# Altium schematic symbol library NICELO_ED01r2.SCHLIB: 46 symbols
Pins are listed as number, name and electrical type; pins without a type are passive.

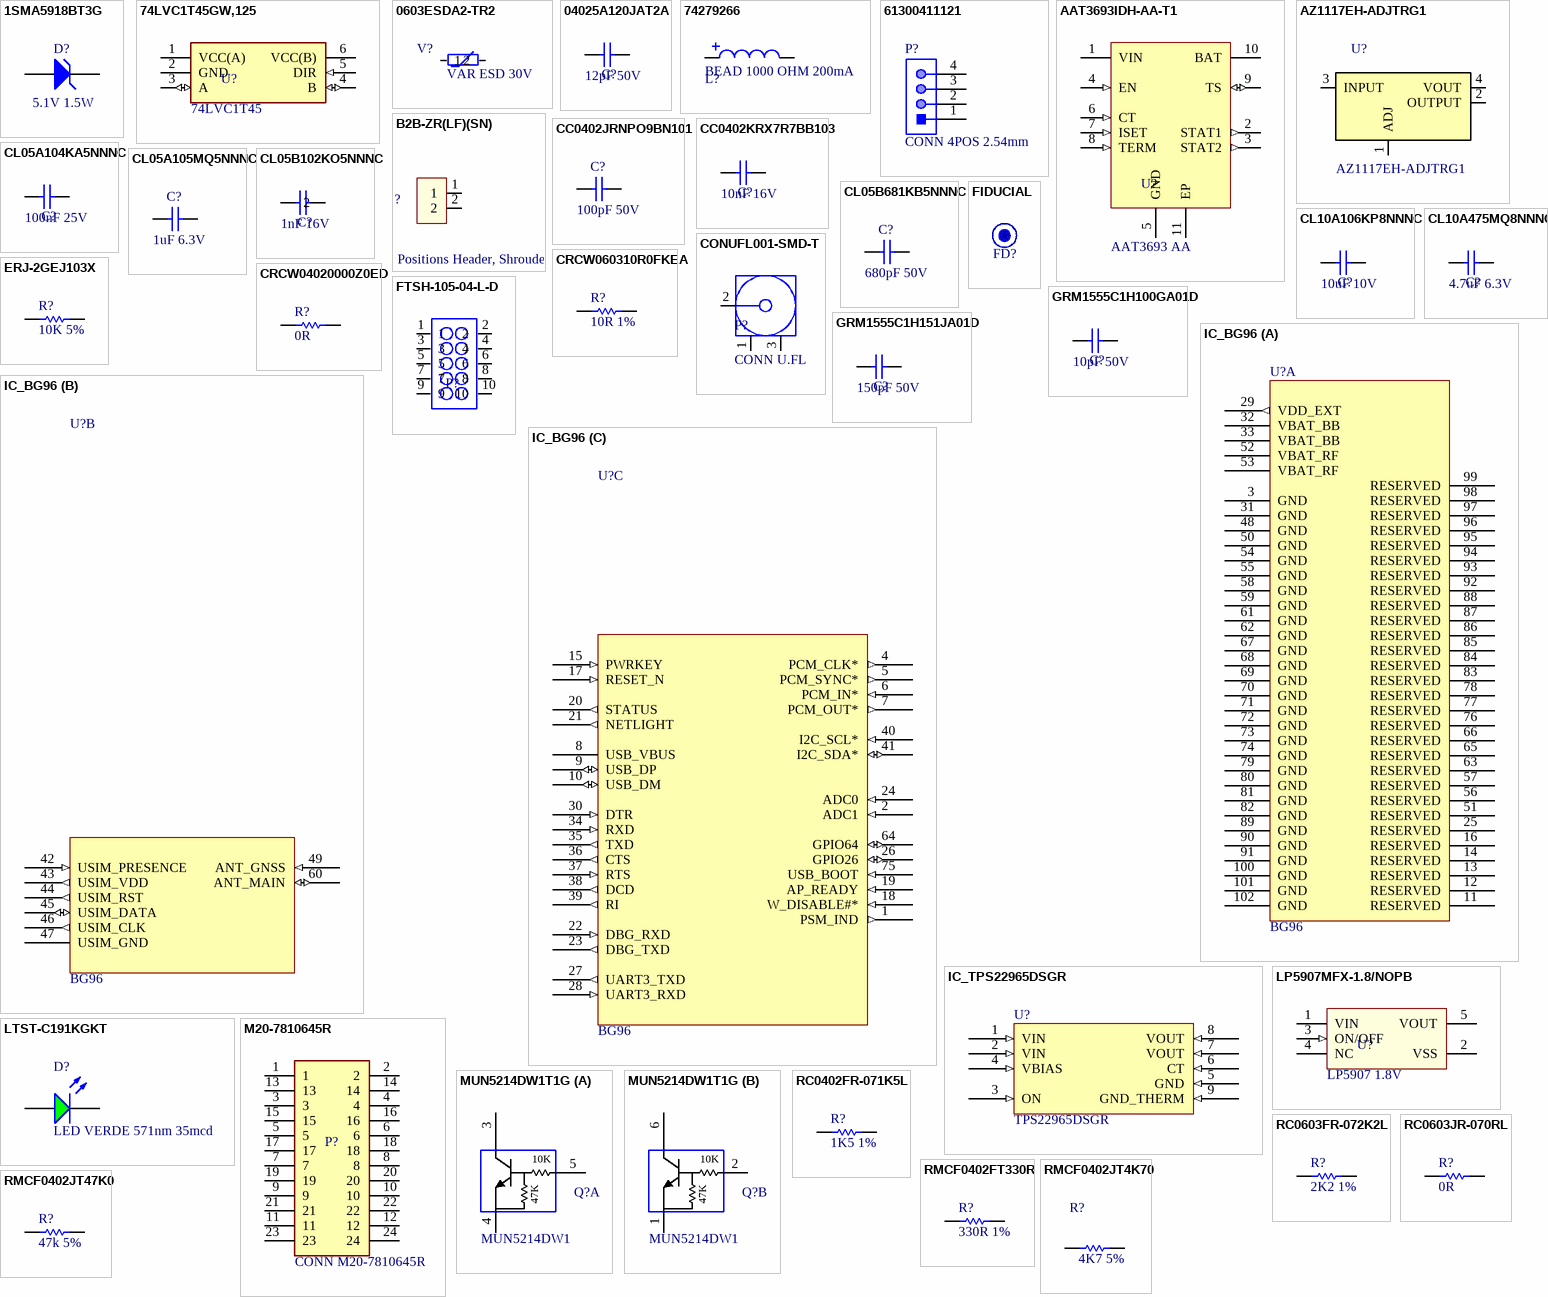
[diagram p0: symbols 1SMA5918BT3G to RMCF0402JT47K0]

## 1SMA5918BT3G
designator D?, comment Valor: 5.1V 1.5W  (hidden comment: DIODO SMD ZENER 5.1V 1.5W DO214AC/SMA)
DIO  SMD ZENER 5.1V 1.5W DO214AC/SMA; Manufacturer: ON Semiconductor; Manufacturer Part Number: 1SMA5918BT3G; Origem: NICELO-Ed01R2; Case/Package: SMA; ComponentLink1URL: https://datasheet.ciiva.com/34303/2015177-34303854.pdf?src-supplier=Jameco; ComponentLink1Description: https://datasheet.ciiva.com/34303/2015177-34303854.pdf?src-supplier=Jameco; ComponentLink2URL: https://datasheet.ciiva.com/895/1sma5913bt3-d-895281.pdf?src-supplier=Digi-Key; ComponentLink2Description: https://datasheet.ciiva.com/895/1sma5913bt3-d-895281.pdf?src-supplier=Digi-Key; ComponentLink3URL: https://datasheet.ciiva.com/895/1sma5913bt3-d-895282.pdf?src-supplier=Digi-Key; ComponentLink3Description: https://datasheet.ciiva.com/895/1sma5913bt3-d-895282.pdf?src-supplier=Digi-Key; ComponentLink4URL: https://datasheet.ciiva.com/895/1sma5913bt3-d-895283.pdf?src-supplier=Digi-Key; ComponentLink4Description: https://datasheet.ciiva.com/895/1sma5913bt3-d-895283.pdf?src-supplier=Digi-Key; ComponentLink5URL: https://datasheet.ciiva.com/4732/1sma5913bt3-d-4732729.pdf?src-supplier=Mouser; ComponentLink5Description: https://datasheet.ciiva.com/4732/1sma5913bt3-d-4732729.pdf?src-supplier=Mouser; ComponentLink6URL: https://datasheet.ciiva.com/8026/1sma5913bt3-d-8026921.pdf?src-supplier=Element14; ComponentLink6Description: https://datasheet.ciiva.com/8026/1sma5913bt3-d-8026921.pdf?src-supplier=Element14; ComponentLink7URL: https://datasheet.ciiva.com/15198/getdatasheetpartid-302228-15198650.pdf?src-supplier=Verical; ComponentLink7Description: https://datasheet.ciiva.com/15198/getdatasheetpartid-302228-15198650.pdf?src-supplier=Verical; ComponentLink8URL: https://datasheet.ciiva.com/49029/70339282-49029083.pdf?src-supplier=Allied+Electronics; ComponentLink8Description: https://datasheet.ciiva.com/49029/70339282-49029083.pdf?src-supplier=Allied+Electronics; ComponentLink9URL: https://datasheet.ciiva.com/26092/1sma5913bt3-d-26092412.pdf?src-supplier=Avnet+Europe; ComponentLink9Description: https://datasheet.ciiva.com/26092/1sma5913bt3-d-26092412.pdf?src-supplier=Avnet+Europe
footprint DIO DO214 AC (SMA)
pins: 1 A, 2 K

## 74LVC1T45GW,125
designator U?, comment Valor: 74LVC1T45  (hidden comment: IC TRNSLTR BIDIRECTIONAL 6TSSOP)
IC TRANSLATER BIDIRECTIONAL 1:1 6TSSOP; Manufacturer: Nexperia USA; Manufacturer Part Number: 74LVC1T45GW,125; Origem: NICELO-Ed01R2; Case/Package: SOT-363
footprint IC SOT-363
pins: 1 VCC(A) (power), 2 GND (power), 3 A (io), 4 B (io), 5 DIR (in), 6 VCC(B) (power)

## 0603ESDA2-TR2
designator V?, comment VALOR: VAR ESD 30V  (hidden comment: SUPPRESSOR ESD 30VDC 0603 SMD)
VAR SMD SUPPRESSOR ESD 30VDC 0603; Manufacturer: Eaton Bussmann; Manufacturer Part Number: 0603ESDA2-TR2; Origem: NICELO-Ed01R2; ComponentLink1URL: https://datasheet.ciiva.com/16351/bus-elx-ds-4419-0603esda2-tr2-16351105.pdf?src-supplier=Future+Electronics; ComponentLink1Description: https://datasheet.ciiva.com/16351/bus-elx-ds-4419-0603esda2-tr2-16351105.pdf?src-supplier=Future+Electronics; ComponentLink2URL: https://datasheet.ciiva.com/12070/bus-elx-ds-4419-0603esda2-tr2-217799-12070781.pdf?src-supplier=Mouser; ComponentLink2Description: https://datasheet.ciiva.com/12070/bus-elx-ds-4419-0603esda2-tr2-217799-12070781.pdf?src-supplier=Mouser; ComponentLink3URL: https://datasheet.ciiva.com/15186/getdatasheetpartid-715931-15186767.pdf?src-supplier=Verical; ComponentLink3Description: https://datasheet.ciiva.com/15186/getdatasheetpartid-715931-15186767.pdf?src-supplier=Verical; Case/Package: 0603; ComponentLink4URL: http://www.cooperindustries.com/content/dam/public/bussmann/Electronics/Resources/product-datasheets/bus-elx-ds-4419-0603esda2-tr2.pdf?src-supplier=Future+Electronics; ComponentLink4Description: http://www.cooperindustries.com/content/dam/public/bussmann/Electronics/Resources/product-datasheets/bus-elx-ds-4419-0603esda2-tr2.pdf?src-supplier=Future+Electronics; ComponentLink5URL: http://www.mouser.com/ds/2/87/bus-elx-ds-4419-0603esda2-tr2-318652.pdf?src-supplier=Mouser; ComponentLink5Description: http://www.mouser.com/ds/2/87/bus-elx-ds-4419-0603esda2-tr2-318652.pdf?src-supplier=Mouser; ComponentLink6URL: https://www.verical.com/server-webapp/html/getDatasheet?partID=715931&src-supplier=Verical; ComponentLink6Description: https://www.verical.com/server-webapp/html/getDatasheet?partID=715931&src-supplier=Verical
footprint VAR 0603
pins: 1, 2

## 04025A120JAT2A
designator C?, comment Valor: 12pF 50V  (hidden comment: CAP SMD CER 12pF 50V C0G/NP0 0402)
Manufacturer: Kyocera AVX; Manufacturer Part Number: 04025A120JAT2A; Origem: NICELO-Ed01R2; Case/Package: 0402; ComponentLink1URL: https://datasheet.ciiva.com/11786/0900766b80def0e2-11786812.pdf?src-supplier=RSComponents; ComponentLink1Description: https://datasheet.ciiva.com/11786/0900766b80def0e2-11786812.pdf?src-supplier=RSComponents; ComponentLink2URL: https://datasheet.ciiva.com/1123/84496-1123477.pdf?src-supplier=Element14; ComponentLink2Description: https://datasheet.ciiva.com/1123/84496-1123477.pdf?src-supplier=Element14; ComponentLink3URL: https://datasheet.ciiva.com/1123/84496-1123478.pdf?src-supplier=Element14; ComponentLink3Description: https://datasheet.ciiva.com/1123/84496-1123478.pdf?src-supplier=Element14; ComponentLink4URL: https://datasheet.ciiva.com/16208/ccog-16208358.pdf?src-supplier=Future+Electronics; ComponentLink4Description: https://datasheet.ciiva.com/16208/ccog-16208358.pdf?src-supplier=Future+Electronics; ComponentLink5URL: https://datasheet.ciiva.com/150/ccog-150539.pdf?src-supplier=Digi-Key; ComponentLink5Description: https://datasheet.ciiva.com/150/ccog-150539.pdf?src-supplier=Digi-Key; ComponentLink6URL: https://datasheet.ciiva.com/150/ccog-150540.pdf?src-supplier=Digi-Key; ComponentLink6Description: https://datasheet.ciiva.com/150/ccog-150540.pdf?src-supplier=Digi-Key; ComponentLink7URL: https://datasheet.ciiva.com/150/ccog-150541.pdf?src-supplier=Digi-Key; ComponentLink7Description: https://datasheet.ciiva.com/150/ccog-150541.pdf?src-supplier=Digi-Key; ComponentLink8URL: https://datasheet.ciiva.com/2987/ccog-2987645.pdf?src-supplier=Avnet; ComponentLink8Description: https://datasheet.ciiva.com/2987/ccog-2987645.pdf?src-supplier=Avnet; ComponentLink9URL: https://datasheet.ciiva.com/7709/759117-7709533.pdf?src-supplier=Element14; ComponentLink9Description: https://datasheet.ciiva.com/7709/759117-7709533.pdf?src-supplier=Element14
footprint CAP 0402
pins: 1, 2

## 74279266
designator L?, comment Valor: BEAD 1000 OHM 200mA  (hidden comment: FERRITE BEAD 1000OHM 0.2A 0603)
Manufacturer: Wurth Electronics; Manufacturer Part Number: 74279266; Origem: NICELO-Ed01R2; Case/Package: 0603; ComponentLink1URL: https://datasheet.ciiva.com/14634/0900766b801ef1d0-14634816.pdf?src-supplier=Allied+Electronics; ComponentLink1Description: https://datasheet.ciiva.com/14634/0900766b801ef1d0-14634816.pdf?src-supplier=Allied+Electronics; ComponentLink2URL: https://datasheet.ciiva.com/23763/74279266-23763009.pdf?src-supplier=Newark; ComponentLink2Description: https://datasheet.ciiva.com/23763/74279266-23763009.pdf?src-supplier=Newark; ComponentLink3URL: https://datasheet.ciiva.com/11799/0900766b801ef1d0-11799352.pdf?src-supplier=RSComponents; ComponentLink3Description: https://datasheet.ciiva.com/11799/0900766b801ef1d0-11799352.pdf?src-supplier=RSComponents; ComponentLink4URL: https://datasheet.ciiva.com/12395/74279266-221135-12395453.pdf?src-supplier=Mouser; ComponentLink4Description: https://datasheet.ciiva.com/12395/74279266-221135-12395453.pdf?src-supplier=Mouser; ComponentLink5URL: https://datasheet.ciiva.com/14971/74279266-14971192.pdf?src-supplier=Digi-Key; ComponentLink5Description: https://datasheet.ciiva.com/14971/74279266-14971192.pdf?src-supplier=Digi-Key; ComponentLink6URL: https://datasheet.ciiva.com/1466/1705901-1466509.pdf?src-supplier=Element14; ComponentLink6Description: https://datasheet.ciiva.com/1466/1705901-1466509.pdf?src-supplier=Element14; ComponentLink7URL: https://datasheet.ciiva.com/22711/1705901-22711422.pdf?src-supplier=Element14; ComponentLink7Description: https://datasheet.ciiva.com/22711/1705901-22711422.pdf?src-supplier=Element14; ComponentLink8URL: https://datasheet.ciiva.com/48698/001087059-da-01-ml-we-cbf-smd-ferrit-74279266-de-en-48698427.pdf?src-supplier=Conrad; ComponentLink8Description: https://datasheet.ciiva.com/48698/001087059-da-01-ml-we-cbf-smd-ferrit-74279266-de-en-48698427.pdf?src-supplier=Conrad
footprint IND 0603
pins: 1, 2

## 61300411121
designator P?, comment Valor: CONN 4POS 2.54mm  (hidden comment: CONN_HEADER_VERT_4POS_2.54MM)
CONN HEADER VERT 4POS 2.54MM PTH; Manufacturer: Wurth Electronics; Manufacturer Part Number: 61300411121; Origem: NICELO-Ed01R2; ComponentLink1URL: http://www.farnell.com/cad/1737268.pdf?src-supplier=Element14; ComponentLink1Description: http://www.farnell.com/cad/1737268.pdf?src-supplier=Element14; ComponentLink2URL: https://katalog.we-online.de/em/datasheet/6130xx11121.pdf?src-supplier=Digi-Key; ComponentLink2Description: https://katalog.we-online.de/em/datasheet/6130xx11121.pdf?src-supplier=Digi-Key; Case/Package: PTH
footprint CONN 4x1 0.100"
pins: 1, 2, 3, 4

## AAT3693IDH-AA-T1
designator U?, comment Valor: AAT3693 AA  (hidden comment: IC LINEAR LI-ION CHGR 1.6A 10TDFN)
Manufacturer: Skyworks Solutions; Manufacturer Part Number: AAT3693IDH-AA-T1; Origem: NICELO-Ed01R2; Case/Package: 10TDFN
footprint IC TDFN-10
pins: 1 VIN (power), 2 STAT1 (out), 3 STAT2 (out), 4 EN (in), 5 GND (power), 6 CT (in), 7 ISET (in), 8 TERM (in), 9 TS (io), 10 BAT (power), 11 EP (power)

## AZ1117EH-ADJTRG1
designator U?, comment Valor: AZ1117EH-ADJTRG1  (hidden comment: IC REG LINEAR POS ADJ 1A SOT223)
Manufacturer: Diodes; Origem: NICELO-Ed01R2; Manufacturer Part Number: AZ1117EH-ADJTRG1; Case/Package: SOT-223; ComponentLink1URL: http://www.mouser.com/ds/2/115/Diodes_AZ1117E-516247.pdf?src-supplier=Mouser; ComponentLink1Description: http://www.mouser.com/ds/2/115/Diodes_AZ1117E-516247.pdf?src-supplier=Mouser; ComponentLink2URL: http://www.alliedelec.com/m/d/d57de965c87ebdde83413643fe4a03e7.pdf?src-supplier=Allied+Electronics; ComponentLink2Description: http://www.alliedelec.com/m/d/d57de965c87ebdde83413643fe4a03e7.pdf?src-supplier=Allied+Electronics; ComponentLink3URL: https://www.diodes.com/assets/Datasheets/AZ1117E.pdf?src-supplier=Digi-Key; ComponentLink3Description: https://www.diodes.com/assets/Datasheets/AZ1117E.pdf?src-supplier=Digi-Key
footprint IC SOT-223
pins: 1 ADJ, 2 OUTPUT, 3 INPUT, 4 VOUT

## B2B-ZR(LF)(SN)
designator P?, comment 2 Positions Header, Shrouded Connector 0.059" (1.50mm) Through Hole Tin-Lead
CONN BATTERY 2 Positions 0.059" (1.50mm) PTH; Manufacturer: JST; Manufacturer Part Number: B2B-ZR(LF)(SN); Origem: NICELO-Ed01R2; VALOR: CONN B2B-ZR; ComponentLink1URL: https://media.digikey.com/pdf/Data%20Sheets/JST%20PDFs/ZH%20Connector.pdf; ComponentLink1Description: https://media.digikey.com/pdf/Data%20Sheets/JST%20PDFs/ZH%20Connector.pdf; ComponentLink2URL: https://www.distrelec.biz/Web/Downloads/_t/ds/zh-series_eng_tds.pdf?mime=application%2Fpdf; ComponentLink2Description: https://www.distrelec.biz/Web/Downloads/_t/ds/zh-series_eng_tds.pdf?mime=application%2Fpdf; Case/Package: HEADER VERT 2 POS
footprint CONN B2B-ZR
pins: 1, 2

## CC0402JRNPO9BN101
designator C?, comment Valor: 100pF 50V  (hidden comment: CAP SMD CER 100pF 50V C0G/NPO 0402)
Manufacturer: Yageo; Manufacturer Part Number: CC0402JRNPO9BN101; Origem: NICELO-Ed01R2; Case/Package: 0402; ComponentLink1URL: http://www.farnell.com/datasheets/2213336.pdf?src-supplier=Newark; ComponentLink1Description: http://www.farnell.com/datasheets/2213336.pdf?src-supplier=Newark; ComponentLink2URL: http://www.yageo.com/documents/recent/UPY-GP_NP0_16V-to-50V_16.pdf?src-supplier=Digi-Key; ComponentLink2Description: http://www.yageo.com/documents/recent/UPY-GP_NP0_16V-to-50V_16.pdf?src-supplier=Digi-Key; ComponentLink3URL: http://documents.rs-components.com/techlib://itc_doclist_GB.htm?stockno=6698684&src-supplier=RSComponents; ComponentLink3Description: http://documents.rs-components.com/techlib://itc_doclist_GB.htm?stockno=6698684&src-supplier=RSComponents; ComponentLink4URL: http://www.yageo.com/documents/recent/UPY-GP_NP0_16V-to-50V_8.pdf?src-supplier=Avnet+Europe; ComponentLink4Description: http://www.yageo.com/documents/recent/UPY-GP_NP0_16V-to-50V_8.pdf?src-supplier=Avnet+Europe; ComponentLink5URL: http://www.farnell.com/datasheets/1443161.pdf?src-supplier=Element14; ComponentLink5Description: http://www.farnell.com/datasheets/1443161.pdf?src-supplier=Element14
footprint CAP 0402 (CAPACITOR 0402)
pins: 1, 2

## CC0402KRX7R7BB103
designator C?, comment Valor: 10nF 16V  (hidden comment: CAP SMD CER 10nF 16V 0402)
CAP SMD CER 10nF 16V X7R 0402; Manufacturer: Yageo; Manufacturer Part Number: CC0402KRX7R7BB103; Origem: NICELO-Ed01R2; Case/Package: 0402; ComponentLink3URL: http://www.farnell.com/datasheets/70765.pdf?src-supplier=Element14; ComponentLink3Description: http://www.farnell.com/datasheets/70765.pdf?src-supplier=Element14; ComponentLink4URL: http://www.farnell.com/datasheets/1489800.pdf?src-supplier=Element14; ComponentLink4Description: http://www.farnell.com/datasheets/1489800.pdf?src-supplier=Element14; ComponentLink5URL: http://www.mouser.com/ds/2/447/Yageo_UPY-GP_NP0_16V-to-50V_9-358835.pdf?src-supplier=Mouser; ComponentLink5Description: http://www.mouser.com/ds/2/447/Yageo_UPY-GP_NP0_16V-to-50V_9-358835.pdf?src-supplier=Mouser
footprint CAP 0402
pins: 1, 2

## CL05A104KA5NNNC
designator C?, comment Valor: 100nF 25V  (hidden comment: CAP SMD CER 100nF 25V 0402)
CAP SMD CER 100nF 25V X5R 0402; Manufacturer: Samsung; Manufacturer Part Number: CL05A104KA5NNNC; Origem: NICELO-Ed01R2; Case/Package: 0402; ComponentLink2URL: https://www.distrelec.biz/Web/Downloads/_e/ng/MLCC_CatalogDownload2013_ENG.pdf?mime=application%2Fpdf&src-supplier=Distrelec; ComponentLink2Description: https://www.distrelec.biz/Web/Downloads/_e/ng/MLCC_CatalogDownload2013_ENG.pdf?mime=application%2Fpdf&src-supplier=Distrelec; ComponentLink3URL: http://www1.futureelectronics.com/doc/SAMSUNG/CL05A104KA5NNNC.pdf?src-supplier=Future+Electronics; ComponentLink3Description: http://www1.futureelectronics.com/doc/SAMSUNG/CL05A104KA5NNNC.pdf?src-supplier=Future+Electronics; ComponentLink4URL: https://www.verical.com/server-webapp/html/getDatasheet?partID=357412&src-supplier=Verical; ComponentLink4Description: https://www.verical.com/server-webapp/html/getDatasheet?partID=357412&src-supplier=Verical
footprint CAP 0402
pins: 1, 2

## CL05A105MQ5NNNC
designator C?, comment Valor: 1uF 6.3V  (hidden comment: CAP SMD CER 1uF 6.3V X5R 0402)
Manufacturer: Samsung; Manufacturer Part Number: CL05A105MQ5NNNC; Origem: NICELO-Ed01R2; Case/Package: 0402; ComponentLink2URL: https://www.verical.com/server-webapp/html/getDatasheet?partID=355273&src-supplier=Verical; ComponentLink2Description: https://www.verical.com/server-webapp/html/getDatasheet?partID=355273&src-supplier=Verical; ComponentLink3URL: http://www1.futureelectronics.com/doc/SAMSUNG%20PASSIVE/CL05B104KQ5NNNC.pdf?src-supplier=Future+Electronics; ComponentLink3Description: http://www1.futureelectronics.com/doc/SAMSUNG%20PASSIVE/CL05B104KQ5NNNC.pdf?src-supplier=Future+Electronics
footprint CAP 0402 (CAPACITOR 0402)
pins: 1, 2

## CL05B102KO5NNNC
designator C?, comment Valor: 1nF 16V  (hidden comment: CAP SMD CER 1nF 16V 0402)
CAP SMD CER 1nF 16V X7R 0402; Manufacturer: Samsung; Manufacturer Part Number: CL05B102KO5NNNC; Origem: NICELO-Ed01R2; Case/Package: 0402
footprint CAP 0402
pins: 1, 2

## CL05B681KB5NNNC
designator C?, comment Valor: 680pF 50V  (hidden comment: CAP SMD CER 680pF 50V X7R 0402)
Manufacturer: Samsung; Manufacturer Part Number: CL05B681KB5NNNC; Origem: NICELO-Ed01R2; Case/Package: 0402; ComponentLink1URL: http://www1.futureelectronics.com/doc/SAMSUNG/CL05B681KB5NNNC.pdf?src-supplier=Future+Electronics; ComponentLink1Description: http://www1.futureelectronics.com/doc/SAMSUNG/CL05B681KB5NNNC.pdf?src-supplier=Future+Electronics
footprint CAP 0402 (CAPACITOR 0402)
pins: 1, 2

## CL10A106KP8NNNC
designator C?, comment Valor: 10uF 10V  (hidden comment: CAP SMD CER 10uF 10V 0603)
CAP SMD CER 10uF 10V X5R 0603; Manufacturer: Samsung; Manufacturer Part Number: CL10A106KP8NNNC; Origem: NICELO-Ed01R2; Case/Package: 0603; ComponentLink1URL: https://www.verical.com/server-webapp/html/getDatasheet?partID=359551; ComponentLink1Description: https://www.verical.com/server-webapp/html/getDatasheet?partID=359551; ComponentLink2URL: http://www1.futureelectronics.com/doc/SAMSUNG%20PASSIVE/CL05B104KQ5NNNC.pdf; ComponentLink2Description: http://www1.futureelectronics.com/doc/SAMSUNG%20PASSIVE/CL05B104KQ5NNNC.pdf
footprint CAP 0603
pins: 1, 2

## CL10A475MQ8NNNC
designator C?, comment Valor: 4.7uF 6.3V  (hidden comment: CAP SMD CER 4.7uF 6.3V 0603)
CAP SMD CER 4.7uF 6.3V X5R 0603; Manufacturer: Samsung; Manufacturer Part Number: CL10A475MQ8NNNC; Origem: NICELO-Ed01R2; Case/Package: 0603; ComponentLink2URL: https://www.verical.com/server-webapp/html/getDatasheet?partID=358407; ComponentLink2Description: https://www.verical.com/server-webapp/html/getDatasheet?partID=358407; ComponentLink3URL: http://www1.futureelectronics.com/doc/SAMSUNG%20PASSIVE/CL05B104KQ5NNNC.pdf; ComponentLink3Description: http://www1.futureelectronics.com/doc/SAMSUNG%20PASSIVE/CL05B104KQ5NNNC.pdf
footprint CAP 0603
pins: 1, 2

## CONUFL001-SMD-T
designator P?, comment Valor: CONN U.FL  (hidden comment: CONN U.FL JACK UMCC SMD 6GHz 50 Ohm)
Manufacturer: Linx; Manufacturer Part Number: CONUFL001-SMD-T; Origem: NICELO-Ed01R2; ComponentLink1URL: https://media.digikey.com/pdf/Data%20Sheets/Linx%20Technologies%20PDFs/CONUFL001-SMD_T_Dwg_RevB_5-15-17.pdf?src-supplier=Digi-Key; ComponentLink1Description: https://media.digikey.com/pdf/Data%20Sheets/Linx%20Technologies%20PDFs/CONUFL001-SMD_T_Dwg_RevB_5-15-17.pdf?src-supplier=Digi-Key; Case/Package: SMD
footprint CONN U.FL
pins: 1, 2, 3

## CRCW060310R0FKEA
designator R?, comment Valor: 10R 1%  (hidden comment: RES SMD 10 OHM 1% 1/10W 0603)
Manufacturer: Vishay; Manufacturer Part Number: CRCW060310R0FKEA; Origem: NICELO-Ed01R2; Case/Package: 0603; ComponentLink1URL: https://datasheet.ciiva.com/11808/0900766b80d98afc-11808660.pdf?src-supplier=RSComponents; ComponentLink1Description: https://datasheet.ciiva.com/11808/0900766b80d98afc-11808660.pdf?src-supplier=RSComponents; ComponentLink2URL: https://datasheet.ciiva.com/2465/dcrcwe3-2465700.pdf?src-supplier=Digi-Key; ComponentLink2Description: https://datasheet.ciiva.com/2465/dcrcwe3-2465700.pdf?src-supplier=Digi-Key; ComponentLink3URL: https://datasheet.ciiva.com/2465/dcrcwe3-2465701.pdf?src-supplier=Digi-Key; ComponentLink3Description: https://datasheet.ciiva.com/2465/dcrcwe3-2465701.pdf?src-supplier=Digi-Key; ComponentLink4URL: https://datasheet.ciiva.com/16740/dcrcwe3-16740661.pdf?src-supplier=Future+Electronics; ComponentLink4Description: https://datasheet.ciiva.com/16740/dcrcwe3-16740661.pdf?src-supplier=Future+Electronics; ComponentLink5URL: https://datasheet.ciiva.com/26316/fld-crcw-e3-data-en-26316582.pdf?src-supplier=Distrelec; ComponentLink5Description: https://datasheet.ciiva.com/26316/fld-crcw-e3-data-en-26316582.pdf?src-supplier=Distrelec; ComponentLink6URL: https://datasheet.ciiva.com/5547/dcrcwe3-109170-5547342.pdf?src-supplier=Mouser; ComponentLink6Description: https://datasheet.ciiva.com/5547/dcrcwe3-109170-5547342.pdf?src-supplier=Mouser; ComponentLink7URL: https://datasheet.ciiva.com/22673/1697337-22673071.pdf?src-supplier=Element14; ComponentLink7Description: https://datasheet.ciiva.com/22673/1697337-22673071.pdf?src-supplier=Element14; ComponentLink8URL: https://datasheet.ciiva.com/2465/dcrcwe3-2465699.pdf?src-supplier=Digi-Key; ComponentLink8Description: https://datasheet.ciiva.com/2465/dcrcwe3-2465699.pdf?src-supplier=Digi-Key; ComponentLink9URL: https://datasheet.ciiva.com/16781/70201119-16781847.pdf?src-supplier=Allied+Electronics; ComponentLink9Description: https://datasheet.ciiva.com/16781/70201119-16781847.pdf?src-supplier=Allied+Electronics
footprint RES 0603 (RESISTOR 0603)
pins: 1, 2

## CRCW04020000Z0ED
designator R?, comment Valor: 0R  (hidden comment: RES SMD 0 OHM JUMPER 1/16W 0402)
Manufacturer: Vishay; Manufacturer Part Number: CRCW04020000Z0ED; Origem: NICELO-Ed01R2; Case/Package: 0402; ComponentLink1URL: http://www.vishay.com/docs/20035/dcrcwe3.pdf?src-supplier=Avnet+Europe; ComponentLink1Description: http://www.vishay.com/docs/20035/dcrcwe3.pdf?src-supplier=Avnet+Europe; ComponentLink2URL: http://www.vishay.com/docs/20035/dcrcwe3.pdf?src-supplier=Avnet; ComponentLink2Description: http://www.vishay.com/docs/20035/dcrcwe3.pdf?src-supplier=Avnet; ComponentLink3URL: http://www.vishay.com/docs/20035/dcrcwe3.pdf?src-supplier=Digi-Key; ComponentLink3Description: http://www.vishay.com/docs/20035/dcrcwe3.pdf?src-supplier=Digi-Key; ComponentLink4URL: http://www.farnell.com/datasheets/2111203.pdf?src-supplier=Element14; ComponentLink4Description: http://www.farnell.com/datasheets/2111203.pdf?src-supplier=Element14; ComponentLink5URL: http://www.vishay.com/docs/20035/dcrcwe3.pdf?src-supplier=Allied+Electronics; ComponentLink5Description: http://www.vishay.com/docs/20035/dcrcwe3.pdf?src-supplier=Allied+Electronics; ComponentLink6URL: https://www.distrelec.biz/Web/Downloads/a_/en/flD-CRCW-e3_data_en.pdf?mime=application%2Fpdf&src-supplier=Distrelec; ComponentLink6Description: https://www.distrelec.biz/Web/Downloads/a_/en/flD-CRCW-e3_data_en.pdf?mime=application%2Fpdf&src-supplier=Distrelec
footprint RES 0402 (RESISTOR 0402)
pins: 1, 2

## ERJ-2GEJ103X
designator R?, comment Valor: 10K 5%  (hidden comment: RES SMD 10K OHM 5% 1/10W 0402)
Manufacturer: Panasonic; Manufacturer Part Number: ERJ-2GEJ103X; Origem: NICELO-Ed01R2; Case/Package: 0402; ComponentLink2URL: http://www.farnell.com/datasheets/1678796.pdf?src-supplier=Element14; ComponentLink2Description: http://www.farnell.com/datasheets/1678796.pdf?src-supplier=Element14; ComponentLink3URL: http://www.mouser.com/ds/2/315/AOA0000CE1-37422.pdf?src-supplier=Mouser; ComponentLink3Description: http://www.mouser.com/ds/2/315/AOA0000CE1-37422.pdf?src-supplier=Mouser; ComponentLink4URL: http://www.farnell.com/datasheets/2059623.pdf?src-supplier=Farnell; ComponentLink4Description: http://www.farnell.com/datasheets/2059623.pdf?src-supplier=Farnell; ComponentLink5URL: https://www.alliedelec.com/m/d/51cd0790071e1666bdb9d00c57fcf960.pdf?src-supplier=Allied+Electronics; ComponentLink5Description: https://www.alliedelec.com/m/d/51cd0790071e1666bdb9d00c57fcf960.pdf?src-supplier=Allied+Electronics; ComponentLink6URL: http://www.jameco.com/Jameco/Products/ProdDS/1935721.pdf?src-supplier=Jameco; ComponentLink6Description: http://www.jameco.com/Jameco/Products/ProdDS/1935721.pdf?src-supplier=Jameco
footprint RES 0402 (RESISTOR 0402)
pins: 1, 2

## FIDUCIAL
designator FD?, comment FIDUCIAL, 0.040" inner Dia, 0.075" outer Dia  (value not drawn)
FIDUCIAL 1MM; Origem: NICELO-Ed01R2; VALOR: FIDUCIAL 1MM; Case/Package: SMD
footprint FID 1mm 1R

## FTSH-105-04-L-D
designator P?, comment CONN HEADER 5X2POS 1.27mm  (value not drawn)
Manufacturer: Samtec; Manufacturer Part Number: FTSH-105-04-L-D; Valor: CON HEADER 5X2POS 1.27mm; Origem: NICELO-Ed01R2; ComponentLink1URL: https://datasheet.ciiva.com/739/ftsh-1xx-xx-xxx-d-xx-mkt-739015.pdf?src-supplier=Digi-Key; ComponentLink1Description: https://datasheet.ciiva.com/739/ftsh-1xx-xx-xxx-d-xx-mkt-739015.pdf?src-supplier=Digi-Key; ComponentLink2URL: https://datasheet.ciiva.com/7423/1596288-7423437.pdf?src-supplier=Newark; ComponentLink2Description: https://datasheet.ciiva.com/7423/1596288-7423437.pdf?src-supplier=Newark; Case/Package: HEADER CUTTABLE
footprint CONN HEADER 5X2POS 0.050"
pins: 1, 2, 3, 4, 5, 6, 7, 8, 9, 10

## GRM1555C1H100GA01D
designator C?, comment Valor: 10pF 50V  (hidden comment: CAP SMD CER 10pF 50V 0402)
CAP SMD CER 10pF 50V C0G/NP0 0402; Manufacturer: Murata; Manufacturer Part Number: GRM1555C1H100GA01D; Origem: NICELO-Ed01R2; Case/Package: 0402; ComponentLink1URL: https://datasheet.ciiva.com/18184/getdatasheetpartid-665555-18184160.pdf?src-supplier=Verical; ComponentLink1Description: https://datasheet.ciiva.com/18184/getdatasheetpartid-665555-18184160.pdf?src-supplier=Verical; ComponentLink2URL: https://datasheet.ciiva.com/11607/product-11607361.pdf?src-supplier=Avnet; ComponentLink2Description: https://datasheet.ciiva.com/11607/product-11607361.pdf?src-supplier=Avnet; ComponentLink3URL: https://datasheet.ciiva.com/6270/grm1555c1h100ga01-01-6270767.pdf?src-supplier=Digi-Key; ComponentLink3Description: https://datasheet.ciiva.com/6270/grm1555c1h100ga01-01-6270767.pdf?src-supplier=Digi-Key
footprint CAP 0402
pins: 1, 2

## GRM1555C1H151JA01D
designator C?, comment Valor: 150pF 50V  (hidden comment: CAP SMD CER 150pF 50V C0G/NP0 0402)
Manufacturer: Murata; Manufacturer Part Number: GRM1555C1H151JA01D; Origem: NICELO-Ed01R2; Case/Package: 0402; ComponentLink1URL: https://datasheet.ciiva.com/130/grm1555c1h151ja01-01-130680.pdf?src-supplier=Digi-Key; ComponentLink1Description: https://datasheet.ciiva.com/130/grm1555c1h151ja01-01-130680.pdf?src-supplier=Digi-Key; ComponentLink2URL: https://datasheet.ciiva.com/18102/getdatasheetpartid-86399-18102944.pdf?src-supplier=Verical; ComponentLink2Description: https://datasheet.ciiva.com/18102/getdatasheetpartid-86399-18102944.pdf?src-supplier=Verical; ComponentLink3URL: https://datasheet.ciiva.com/11786/0900766b807a1cab-11786501.pdf?src-supplier=RSComponents; ComponentLink3Description: https://datasheet.ciiva.com/11786/0900766b807a1cab-11786501.pdf?src-supplier=RSComponents; ComponentLink4URL: https://datasheet.ciiva.com/130/grm1555c1h151ja01-01-130679.pdf?src-supplier=Digi-Key; ComponentLink4Description: https://datasheet.ciiva.com/130/grm1555c1h151ja01-01-130679.pdf?src-supplier=Digi-Key; ComponentLink5URL: https://datasheet.ciiva.com/130/grm1555c1h151ja01-01-130681.pdf?src-supplier=Digi-Key; ComponentLink5Description: https://datasheet.ciiva.com/130/grm1555c1h151ja01-01-130681.pdf?src-supplier=Digi-Key; ComponentLink6URL: https://datasheet.ciiva.com/29200/453621-da-01-en-vs-kondensator-0402-29200148.pdf?src-supplier=Conrad; ComponentLink6Description: https://datasheet.ciiva.com/29200/453621-da-01-en-vs-kondensator-0402-29200148.pdf?src-supplier=Conrad; ComponentLink7URL: https://datasheet.ciiva.com/16389/product-16389161.pdf?src-supplier=Future+Electronics; ComponentLink7Description: https://datasheet.ciiva.com/16389/product-16389161.pdf?src-supplier=Future+Electronics; ComponentLink8URL: https://datasheet.ciiva.com/14116/grmseries-tc-hitype-eng-14116923.pdf?src-supplier=Distrelec; ComponentLink8Description: https://datasheet.ciiva.com/14116/grmseries-tc-hitype-eng-14116923.pdf?src-supplier=Distrelec; ComponentLink9URL: https://datasheet.ciiva.com/6068/4360-6068173.pdf?src-supplier=Farnell; ComponentLink9Description: https://datasheet.ciiva.com/6068/4360-6068173.pdf?src-supplier=Farnell
footprint CAP 0402
pins: 1, 2

## IC_BG96
designator U?, comment Valor: BG96  (hidden comment: IC MODULE LTE CAT-M BG96)
Manufacturer: Quectel; Manufacturer Part Number: BG96MA-128-SGN; Origem: NICELO-Ed01R2; Case/Package: LGA
footprint IC BG96
part A pins: 3 GND (power) "Ground", 11 RESERVED "Reserved", 12 RESERVED "Reserved", 13 RESERVED "Reserved", 14 RESERVED "Reserved", 16 RESERVED "Reserved", 25 RESERVED "Reserved", 29 VDD_EXT (out) "Provide 1.8V for external circuit", 31 GND (power) "Ground", 32 VBAT_BB (power) "Power supply for the module’s baseband part", 33 VBAT_BB (power) "Power supply for the module’s baseband part", 48 GND (power) "Ground", 50 GND (power) "Ground", 51 RESERVED "Reserved", 52 VBAT_RF (power) "Power supply for the module’s RF part", 53 VBAT_RF (power) "Power supply for the module’s RF part", 54 GND (power) "Ground", 55 GND (power) "Ground", 56 RESERVED "Reserved", 57 RESERVED "Reserved", 58 GND (power) "Ground", 59 GND (power) "Ground", 61 GND (power) "Ground", 62 GND (power) "Ground", 63 RESERVED "Reserved", 65 RESERVED "Reserved", 66 RESERVED "Reserved", 67 GND (power) "Ground", 68 GND (power) "Ground", 69 GND (power) "Ground", 70 GND (power) "Ground", 71 GND (power) "Ground", 72 GND (power) "Ground", 73 GND (power) "Ground", 74 GND (power) "Ground", 76 RESERVED "Reserved", 77 RESERVED "Reserved", 78 RESERVED "Reserved", 79 GND (power) "Ground", 80 GND (power) "Ground", 81 GND (power) "Ground", 82 GND (power) "Ground", 83 RESERVED "Reserved", 84 RESERVED "Reserved", 85 RESERVED "Reserved", 86 RESERVED "Reserved", 87 RESERVED "Reserved", 88 RESERVED "Reserved", 89 GND (power) "Ground", 90 GND (power) "Ground", 91 GND (power) "Ground", 92 RESERVED "Reserved", 93 RESERVED "Reserved", 94 RESERVED "Reserved", 95 RESERVED "Reserved", 96 RESERVED "Reserved", 97 RESERVED "Reserved", 98 RESERVED "Reserved", 99 RESERVED "Reserved", 100 GND (power) "Ground", 101 GND (power) "Ground", 102 GND (power) "Ground"
part B pins: 42 USIM_PRESENCE (in) "(U)SIM card insertion detection", 43 USIM_VDD (out) "Power supply for (U)SIM card", 44 USIM_RST (out) "Reset signal of (U)SIM card", 45 USIM_DATA (io) "Data signal of (U)SIM card", 46 USIM_CLK (out) "Clock signal of (U)SIM card", 47 USIM_GND (power) "Specified ground for (U)SIM card", 49 ANT_GNSS (in) "GNSS antenna interface", 60 ANT_MAIN (io) "Main antenna interface"
part C pins: 1 PSM_IND (out) "Power saving mode indicator", 2 ADC1 (in) "General purpose analog to digital converter interface", 4 PCM_CLK* (out) "PCM clock output", 5 PCM_SYNC* (out) "PCM frame synchronization output", 6 PCM_IN* (in) "PCM data input", 7 PCM_OUT* (out) "PCM data output", 8 USB_VBUS (power) "USB detection", 9 USB_DP (io) "USB differential data bus (+)", 10 USB_DM (io) "IO USB differential data bus (-)", 15 PWRKEY (in) "Turn on/off the module", 17 RESET_N (in) "Reset the module", 18 W_DISABLE#* (in) "Airplane mode control", 19 AP_READY (in) "Application processor sleep state detection", 20 STATUS (out) "Indicate the module’s operation status", 21 NETLIGHT (out) "Indicate the module’s network activity status", 22 DBG_RXD (in) "Receive data", 23 DBG_TXD (out) "Transmit data", 24 ADC0 (in) "General purpose analog to digital converter interface", 26 GPIO26 (io) "Generalpurpose input/ output interface", 27 UART3_TXD (out) "Transmit data", 28 UART3_RXD (in) "Receive data", 30 DTR (in) "Data terminal ready(sleep mode control)", 34 RXD (in) "Receive data", 35 TXD (out) "Transmit data", 36 CTS (out) "Clear to send", 37 RTS (in) "Request to send", 38 DCD (out) "Data carrier detection", 39 RI (out) "Ring indicator", 40 I2C_SCL* (in) "I2C serial clock. Used for external codec.", 41 I2C_SDA* (io) "I2C serial data. Used for external codec.", 64 GPIO64 (io) "Generalpurpose input/ output interface", 75 USB_BOOT (in) "Force the module to enter into emergency download mode"

## IC_TPS22965DSGR
designator U?, comment Valor: TPS22965DSGR  (hidden comment: IC LOAD SWITCH 6A 8WSON)
Manufacturer: Texas Instruments; Origem: NICELO-Ed01R2; ComponentLink1URL: http://www.ti.com/general/docs/lit/getliterature.tsp?genericPartNumber=TPS22965&&fileType=pdf&src-supplier=Avnet; ComponentLink1Description: http://www.ti.com/general/docs/lit/getliterature.tsp?genericPartNumber=TPS22965&&fileType=pdf&src-supplier=Avnet; ComponentLink3URL: http://www.ti.com/lit/ds/symlink/tps22965.pdf?src-supplier=Digi-Key; ComponentLink3Description: http://www.ti.com/lit/ds/symlink/tps22965.pdf?src-supplier=Digi-Key; Manufacturer Part Number: TPS22965DSGR; Case/Package: 8-WSON
footprint IC 8-WSON
pins: 1 VIN (in), 2 VIN (in), 3 ON (in), 4 VBIAS (in), 5 GND (in), 6 CT (in), 7 VOUT (in), 8 VOUT (in), 9 GND_THERM (in)

## LP5907MFX-1.8/NOPB
designator U?, comment Valor: LP5907 1.8V  (hidden comment: IC REG LDO 1.8V 0.25A SOT23-5)
Manufacturer: Texas Instruments; Manufacturer Part Number: LP5907MFX-1.8/NOPB; Origem: NICELO-Ed01R2; Case/Package: SOT-23-5; ComponentLink1URL: http://www.ti.com/lit/ds/symlink/lp5907.pdf?src-supplier=Digi-Key; ComponentLink1Description: http://www.ti.com/lit/ds/symlink/lp5907.pdf?src-supplier=Digi-Key
footprint IC SOT-23-5
pins: 1 VIN (power), 2 VSS (power), 3 ON/OFF (in), 4 NC, 5 VOUT (power)

## LTST-C191KGKT
designator D?, comment Valor: LED VERDE 571nm 35mcd  (hidden comment: LED VERDE 571NM 0603)
Manufacturer: Vishay Lite-On; Manufacturer Part Number: LTST-C191KGKT; Origem: NICELO-Ed01R2; Case/Package: 0603; ComponentLink1URL: https://datasheet.ciiva.com/12400/100-ltst-c191kgkt-53586-12400818.pdf?src-supplier=Mouser; ComponentLink1Description: https://datasheet.ciiva.com/12400/100-ltst-c191kgkt-53586-12400818.pdf?src-supplier=Mouser; ComponentLink2URL: https://datasheet.ciiva.com/11773/0900766b80dc02b1-11773629.pdf?src-supplier=RSComponents; ComponentLink2Description: https://datasheet.ciiva.com/11773/0900766b80dc02b1-11773629.pdf?src-supplier=RSComponents; ComponentLink3URL: https://datasheet.ciiva.com/16215/ltst-c191kgkt-16215151.pdf?src-supplier=Future+Electronics; ComponentLink3Description: https://datasheet.ciiva.com/16215/ltst-c191kgkt-16215151.pdf?src-supplier=Future+Electronics; ComponentLink4URL: https://datasheet.ciiva.com/2109/s-110-ltst-c191kgkt-2109973.pdf?src-supplier=Digi-Key; ComponentLink4Description: https://datasheet.ciiva.com/2109/s-110-ltst-c191kgkt-2109973.pdf?src-supplier=Digi-Key; ComponentLink5URL: https://datasheet.ciiva.com/2109/s-110-ltst-c191kgkt-2109974.pdf?src-supplier=Digi-Key; ComponentLink5Description: https://datasheet.ciiva.com/2109/s-110-ltst-c191kgkt-2109974.pdf?src-supplier=Digi-Key; ComponentLink6URL: https://datasheet.ciiva.com/2109/s-110-ltst-c191kgkt-2109975.pdf?src-supplier=Digi-Key; ComponentLink6Description: https://datasheet.ciiva.com/2109/s-110-ltst-c191kgkt-2109975.pdf?src-supplier=Digi-Key; ComponentLink7URL: https://datasheet.ciiva.com/15223/getdatasheetpartid-103913-15223276.pdf?src-supplier=Verical; ComponentLink7Description: https://datasheet.ciiva.com/15223/getdatasheetpartid-103913-15223276.pdf?src-supplier=Verical
footprint LED 0603
pins: 1 A, 2 K

## M20-7810645R
designator P?, comment Valor: CONN M20-7810645R  (hidden comment: CONN RCPT 12POS 0.1 GOLD SMD)
Manufacturer: Harwin Inc; Manufacturer Part Number: M20-7810645R; Origem: NICELO-Ed01R2; ComponentLink1URL: https://drawings-pdf.s3.amazonaws.com/10488.pdf?src-supplier=Digi-Key; ComponentLink1Description: https://drawings-pdf.s3.amazonaws.com/10488.pdf?src-supplier=Digi-Key; Case/Package: SMD/PTH
footprint CONN M207810645R SMD PTH
pins: 1, 2, 3, 4, 5, 6, 7, 8, 9, 10, 11, 12, 13, 14, 15, 16, 17, 18, 19, 20, 21, 22, 23, 24

## MUN5214DW1T1G
designator Q?  Valor: MUN5214DW1  (hidden comment: MUN5214DW1T1G)
TRANS 2NPN PREBIAS 0.25W SOT363; Manufacturer: ON Semiconductor; Origem: NICELO-Ed01R2; ComponentLink1URL: https://datasheet.ciiva.com/6361/dtc143td-d-6361856.pdf?src-supplier=Digi-Key; ComponentLink1Description: https://datasheet.ciiva.com/6361/dtc143td-d-6361856.pdf?src-supplier=Digi-Key; ComponentLink2URL: https://datasheet.ciiva.com/15139/getdatasheetpartid-223631-15139774.pdf?src-supplier=Verical; ComponentLink2Description: https://datasheet.ciiva.com/15139/getdatasheetpartid-223631-15139774.pdf?src-supplier=Verical; ComponentLink3URL: https://datasheet.ciiva.com/16218/dtc143td-d-16218507.pdf?src-supplier=Future+Electronics; ComponentLink3Description: https://datasheet.ciiva.com/16218/dtc143td-d-16218507.pdf?src-supplier=Future+Electronics; Manufacturer Part Number: MUN5214DW1T1G; Case/Package: SOT-363; ComponentLink4URL: https://datasheet.ciiva.com/15139/getdatasheetpartid-53140-15139579.pdf?src-supplier=Verical; ComponentLink4Description: https://datasheet.ciiva.com/15139/getdatasheetpartid-53140-15139579.pdf?src-supplier=Verical; ComponentLink5URL: https://datasheet.ciiva.com/11210/dtc143zd-d-11210334.pdf?src-supplier=Avnet; ComponentLink5Description: https://datasheet.ciiva.com/11210/dtc143zd-d-11210334.pdf?src-supplier=Avnet; ComponentLink6URL: https://datasheet.ciiva.com/8083/dtc143zd-d-8083989.pdf?src-supplier=Avnet; ComponentLink6Description: https://datasheet.ciiva.com/8083/dtc143zd-d-8083989.pdf?src-supplier=Avnet; ComponentLink7URL: https://datasheet.ciiva.com/970/dtc114yd-d-970726.pdf?src-supplier=Digi-Key; ComponentLink7Description: https://datasheet.ciiva.com/970/dtc114yd-d-970726.pdf?src-supplier=Digi-Key; ComponentLink8URL: https://datasheet.ciiva.com/970/dtc114yd-d-970727.pdf?src-supplier=Digi-Key; ComponentLink8Description: https://datasheet.ciiva.com/970/dtc114yd-d-970727.pdf?src-supplier=Digi-Key; ComponentLink9URL: https://datasheet.ciiva.com/970/dtc114yd-d-970728.pdf?src-supplier=Digi-Key; ComponentLink9Description: https://datasheet.ciiva.com/970/dtc114yd-d-970728.pdf?src-supplier=Digi-Key
footprint IC SOT-363
part A pins: 3 C, 4 E, 5 B
part B pins: 1 E, 2 B, 6 C
part A text: 10K; 47K
part B text: 10K; 47K

## RC0402FR-071K5L
designator R?, comment Valor: 1K5 1%  (hidden comment: RES SMD 1K5 OHM 1% 1/16W 0402)
Manufacturer: Yageo; Manufacturer Part Number: RC0402FR-071K5L; Origem: NICELO-Ed01R2; Case/Package: 0402; ComponentLink2URL: http://www.farnell.com/datasheets/1018594.pdf?src-supplier=Element14; ComponentLink2Description: http://www.farnell.com/datasheets/1018594.pdf?src-supplier=Element14; ComponentLink3URL: https://www.verical.com/server-webapp/html/getDatasheet?partID=323992&src-supplier=Verical; ComponentLink3Description: https://www.verical.com/server-webapp/html/getDatasheet?partID=323992&src-supplier=Verical
footprint RES 0402 (RESISTOR 0402)
pins: 1, 2

## RC0603FR-072K2L
designator R?, comment Valor: 2K2 1%  (hidden comment: RES SMD 2K2 OHM 1% 1/10W 0603)
Manufacturer: Yageo; Manufacturer Part Number: RC0603FR-072K2L; Origem: NICELO-Ed01R2; Case/Package: 0603; ComponentLink1URL: http://www.farnell.com/datasheets/1868787.pdf?src-supplier=Element14; ComponentLink1Description: http://www.farnell.com/datasheets/1868787.pdf?src-supplier=Element14; ComponentLink3URL: http://www.farnell.com/datasheets/2167052.pdf?src-supplier=Element14; ComponentLink3Description: http://www.farnell.com/datasheets/2167052.pdf?src-supplier=Element14; ComponentLink4URL: http://www.farnell.com/datasheets/443971.pdf?src-supplier=Element14; ComponentLink4Description: http://www.farnell.com/datasheets/443971.pdf?src-supplier=Element14
footprint RES 0603 (RESISTOR 0603)
pins: 1, 2

## RC0603JR-070RL
designator R?, comment Valor: 0R  (hidden comment: RES SMD 0 OHM JUMPER 1/10W 0603)
Manufacturer: Yageo; Manufacturer Part Number: RC0603JR-070RL; Origem: NICELO-Ed01R2; Case/Package: 0603; ComponentLink1URL: http://www.farnell.com/datasheets/1868787.pdf?src-supplier=Element14; ComponentLink1Description: http://www.farnell.com/datasheets/1868787.pdf?src-supplier=Element14; ComponentLink2URL: https://www.verical.com/server-webapp/html/getDatasheet?partID=329462&src-supplier=Verical; ComponentLink2Description: https://www.verical.com/server-webapp/html/getDatasheet?partID=329462&src-supplier=Verical; ComponentLink4URL: http://www.farnell.com/datasheets/443971.pdf?src-supplier=Element14; ComponentLink4Description: http://www.farnell.com/datasheets/443971.pdf?src-supplier=Element14
footprint RES 0603 (RESISTOR 0603)
pins: 1, 2

## RMCF0402FT330R
designator R?, comment Valor: 330R 1%  (hidden comment: RES SMD 330 OHM 1% 1/16W 0402)
Manufacturer: Stackpole Electronics; Manufacturer Part Number: RMCF0402FT330R; Origem: NICELO-Ed01R2; Case/Package: 0402
footprint RES 0402 (RESISTOR 0402)
pins: 1, 2

## RMCF0402JT4K70
designator R?, comment Valor: 4K7 5%  (hidden comment: RES SMD 4K7 OHM 5% 1/16W 0402)
Manufacturer: Stackpole Electronics; Manufacturer Part Number: RMCF0402JT4K70; Origem: NICELO-Ed01R2; Case/Package: 0402
footprint RES 0402 (RESISTOR 0402)
pins: 1, 2

## RMCF0402JT47K0
designator R?, comment Valor: 47k 5%  (hidden comment: RES SMD 47K OHM 5% 1/16W 0402)
Manufacturer: Stackpole Electronics; Manufacturer Part Number: RMCF0402JT47K0; Origem: NICELO-Ed01R2; Case/Package: 0402; ComponentLink2URL: http://www.seielect.com/Catalog/SEI-rmc.pdf?src-supplier=Future+Electronics; ComponentLink2Description: http://www.seielect.com/Catalog/SEI-rmc.pdf?src-supplier=Future+Electronics; ComponentLink3URL: https://www.seielect.com/Catalog/SEI-RMCF_RMCP.pdf?src-supplier=Avnet; ComponentLink3Description: https://www.seielect.com/Catalog/SEI-RMCF_RMCP.pdf?src-supplier=Avnet; ComponentLink4URL: https://www.seielect.com/catalog/SEI-Packaging.pdf?src-supplier=Digi-Key; ComponentLink4Description: https://www.seielect.com/catalog/SEI-Packaging.pdf?src-supplier=Digi-Key
footprint RES 0402 (RESISTOR 0402)
pins: 1, 2

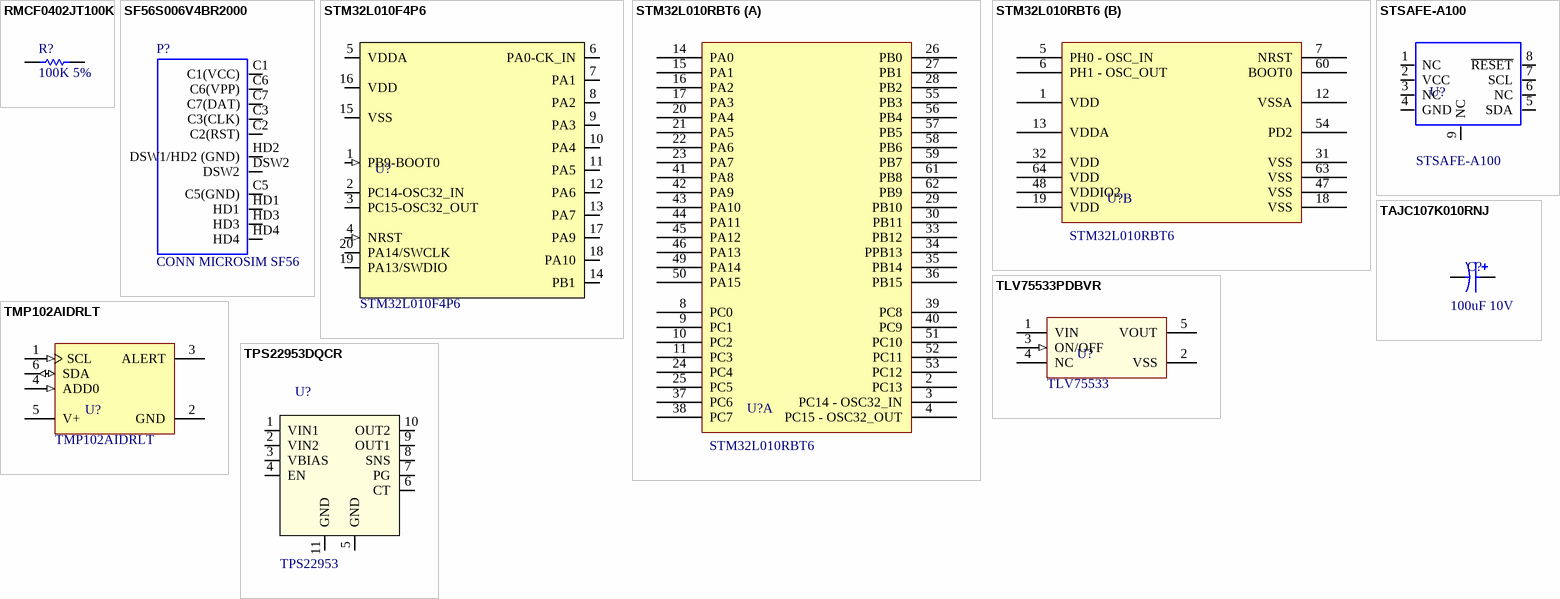
[diagram p1: symbols RMCF0402JT100K to TPS22953DQCR]

## RMCF0402JT100K
designator R?, comment Valor: 100K 5%  (hidden comment: RES SMD 100K OHM 5% 1/16W 0402)
Manufacturer: Stackpole Electronics; Manufacturer Part Number: RMCF0402JT100K; Origem: NICELO-Ed01R2; Case/Package: 0402; ComponentLink1URL: https://www.verical.com/server-webapp/html/getDatasheet?partID=410325&src-supplier=Verical; ComponentLink1Description: https://www.verical.com/server-webapp/html/getDatasheet?partID=410325&src-supplier=Verical
footprint RES 0402 (RESISTOR 0402)
pins: 1, 2

## SF56S006V4BR2000
designator P?, comment Valor: CONN MICROSIM SF56  (hidden comment: CONN MICRO SIM CARD PUSH-PUSH)
Manufacturer: JAE Electronics; Manufacturer Part Number: SF56S006V4BR2000; Origem: NICELO-Ed01R2; Case/Package: SMD
footprint CONN SIMCARD SF56S006V4BR2000-B
pins: C1 C1(VCC), C2 C2(RST), C3 C3(CLK), C5 C5(GND), C6 C6(VPP), C7 C7(DAT), DSW2, HD1, HD2 DSW1/HD2 (GND), HD3, HD4

## STM32L010F4P6
designator U?
MCU STM32L010F4P6 32BITS 32MHz 16KB/2KB 1.8-3.6V; Manufacturer: STMicroelectronics; Origem: NICELO-Ed01R2; Manufacturer Part Number: STM32L010F4P6; Case/Package: 20-TSSOP; Valor: STM32L010F4P6
footprint IC TSSOP20
pins: 1 PB9-BOOT0 (in), 2 PC14-OSC32_IN (io), 3 PC15-OSC32_OUT (io), 4 NRST (in), 5 VDDA (power), 6 PA0-CK_IN (io), 7 PA1 (io), 8 PA2 (io), 9 PA3 (io), 10 PA4 (io), 11 PA5 (io), 12 PA6 (io), 13 PA7 (io), 14 PB1 (io), 15 VSS (power), 16 VDD (power), 17 PA9 (io), 18 PA10 (io), 19 PA13/SWDIO (io), 20 PA14/SWCLK (io)

## STM32L010RBT6
designator U?
MCU STM32L010RBT6 32BITS 32MHZ 128KB/20KB 1.8-3.6V; Manufacturer: STMicroelectronics; Origem: NICELO-Ed01R2; Manufacturer Part Number: STM32L010RBT6; Case/Package: 64-LQFP; Valor: STM32L010RBT6
footprint IC LQFP64
part A pins: 2 PC13, 3 PC14 - OSC32_IN, 4 PC15 - OSC32_OUT, 8 PC0, 9 PC1, 10 PC2, 11 PC3, 14 PA0, 15 PA1, 16 PA2, 17 PA3, 20 PA4, 21 PA5, 22 PA6, 23 PA7, 24 PC4, 25 PC5, 26 PB0, 27 PB1, 28 PB2, 29 PB10, 30 PB11, 33 PB12, 34 PPB13, 35 PB14, 36 PB15, 37 PC6, 38 PC7, 39 PC8, 40 PC9, 41 PA8, 42 PA9, 43 PA10, 44 PA11, 45 PA12, 46 PA13, 49 PA14, 50 PA15, 51 PC10, 52 PC11, 53 PC12, 55 PB3, 56 PB4, 57 PB5, 58 PB6, 59 PB7, 61 PB8, 62 PB9
part B pins: 1 VDD, 5 PH0 - OSC_IN, 6 PH1 - OSC_OUT, 7 NRST, 12 VSSA, 13 VDDA, 18 VSS, 19 VDD, 31 VSS, 32 VDD, 47 VSS, 48 VDDIO2, 54 PD2, 60 BOOT0, 63 VSS, 64 VDD

## STSAFE-A100
designator U?
IC SAFETY MODULE STSAFE-A100; Manufacturer: STMicroelectronics; Origem: NICELO-Ed01R2; Manufacturer Part Number: STSAFE-A100; Case/Package: UFDFPN8; Valor: STSAFE-A100
footprint IC UFDFPN8
pins: 1 NC, 2 VCC, 3 NC, 4 GND, 5 SDA, 6 NC, 7 SCL, 8 ~{RESET}, 9 NC

## TAJC107K010RNJ
designator C?, comment Valor: 100uF 10V  (hidden comment: CAP SMD TANT 100uF 10V 10% 2312)
Manufacturer: Kyocera AVX; Manufacturer Part Number: TAJC107K010RNJ; Origem: NICELO-Ed01R2; Case/Package: 2312; ComponentLink1URL: https://datasheet.ciiva.com/6186/13070-6186737.pdf?src-supplier=Farnell; ComponentLink1Description: https://datasheet.ciiva.com/6186/13070-6186737.pdf?src-supplier=Farnell; ComponentLink2URL: https://datasheet.ciiva.com/11793/0900766b80ccdc61-11793710.pdf?src-supplier=RSComponents; ComponentLink2Description: https://datasheet.ciiva.com/11793/0900766b80ccdc61-11793710.pdf?src-supplier=RSComponents; ComponentLink3URL: https://datasheet.ciiva.com/26341/559445-da-01-en-tacc-c-6-0-mm-x-3-2-mm-x-2-6-mm-100-uf-26341786.pdf?src-supplier=Conrad; ComponentLink3Description: https://datasheet.ciiva.com/26341/559445-da-01-en-tacc-c-6-0-mm-x-3-2-mm-x-2-6-mm-100-uf-26341786.pdf?src-supplier=Conrad; ComponentLink4URL: https://datasheet.ciiva.com/18710/taj-eng-18710871.pdf?src-supplier=Distrelec; ComponentLink4Description: https://datasheet.ciiva.com/18710/taj-eng-18710871.pdf?src-supplier=Distrelec; ComponentLink5URL: https://datasheet.ciiva.com/7720/taj-7720616.pdf?src-supplier=Element14; ComponentLink5Description: https://datasheet.ciiva.com/7720/taj-7720616.pdf?src-supplier=Element14; ComponentLink6URL: https://datasheet.ciiva.com/7720/1680476-7720617.pdf?src-supplier=Element14; ComponentLink6Description: https://datasheet.ciiva.com/7720/1680476-7720617.pdf?src-supplier=Element14; ComponentLink7URL: https://datasheet.ciiva.com/7720/taj-7720618.pdf?src-supplier=Element14; ComponentLink7Description: https://datasheet.ciiva.com/7720/taj-7720618.pdf?src-supplier=Element14; ComponentLink8URL: https://datasheet.ciiva.com/15163/getdatasheetpartid-87208-15163226.pdf?src-supplier=Verical; ComponentLink8Description: https://datasheet.ciiva.com/15163/getdatasheetpartid-87208-15163226.pdf?src-supplier=Verical; ComponentLink9URL: https://datasheet.ciiva.com/16350/taj-16350362.pdf?src-supplier=Future+Electronics; ComponentLink9Description: https://datasheet.ciiva.com/16350/taj-16350362.pdf?src-supplier=Future+Electronics
footprint CAP 2312
pins: 1, 2

## TLV75533PDBVR
designator U?, comment Valor: TLV75533  (hidden comment: IC REG LDO 3V3 0.5A SOT-23-5)
Manufacturer: Texas Instruments; Manufacturer Part Number: TLV75533PDBVR; Origem: NICELO-Ed01R2; Case/Package: SOT23-5
footprint IC SOT-23-5
pins: 1 VIN (power), 2 VSS (power), 3 ON/OFF (in), 4 NC, 5 VOUT (power)

## TMP102AIDRLT
designator U?
IC TEMP SENSOR TMP102AIDRLT -40-125C SMD; Manufacturer: Texas Instruments; Origem: NICELO-Ed01R2; Manufacturer Part Number: TMP102AIDRLT; Case/Package: SOT-563; ComponentLink1URL: https://datasheet.ciiva.com/2004/tmp102-2004192.pdf?src-supplier=Digi-Key; ComponentLink1Description: https://datasheet.ciiva.com/2004/tmp102-2004192.pdf?src-supplier=Digi-Key; ComponentLink2URL: https://datasheet.ciiva.com/15098/getdatasheetpartid-234520-15098390.pdf?src-supplier=Verical; ComponentLink2Description: https://datasheet.ciiva.com/15098/getdatasheetpartid-234520-15098390.pdf?src-supplier=Verical; ComponentLink3URL: https://datasheet.ciiva.com/1514/1851967-1514097.pdf?src-supplier=Element14; ComponentLink3Description: https://datasheet.ciiva.com/1514/1851967-1514097.pdf?src-supplier=Element14; ComponentLink4URL: https://datasheet.ciiva.com/2004/tmp102-2004193.pdf?src-supplier=Digi-Key; ComponentLink4Description: https://datasheet.ciiva.com/2004/tmp102-2004193.pdf?src-supplier=Digi-Key; ComponentLink5URL: https://datasheet.ciiva.com/3278/tmp102-3278007.pdf?src-supplier=Avnet; ComponentLink5Description: https://datasheet.ciiva.com/3278/tmp102-3278007.pdf?src-supplier=Avnet; ComponentLink6URL: https://datasheet.ciiva.com/3278/tmp102-3278008.pdf?src-supplier=Avnet; ComponentLink6Description: https://datasheet.ciiva.com/3278/tmp102-3278008.pdf?src-supplier=Avnet; ComponentLink7URL: https://datasheet.ciiva.com/26021/tmp102-26021304.pdf?src-supplier=Avnet+Europe; ComponentLink7Description: https://datasheet.ciiva.com/26021/tmp102-26021304.pdf?src-supplier=Avnet+Europe; ComponentLink8URL: https://datasheet.ciiva.com/46390/1851967-46390442.pdf?src-supplier=Element14; ComponentLink8Description: https://datasheet.ciiva.com/46390/1851967-46390442.pdf?src-supplier=Element14; ComponentLink9URL: https://datasheet.ciiva.com/2004/tmp102-2004191.pdf?src-supplier=Digi-Key; ComponentLink9Description: https://datasheet.ciiva.com/2004/tmp102-2004191.pdf?src-supplier=Digi-Key; Valor: TMP102AIDRLT
footprint IC SOT-563
pins: 1 SCL (in) "Serial clock. Open-drain output; requires a pullup resistor.", 2 GND (power) "Ground", 3 ALERT (oc) "Overtemperature alert. Open-drain output; requires a pullup resistor.", 4 ADD0 (in) "Address select. Connect to GND or V+", 5 V+ (power) "Supply voltage, 1.4 V to 3.6 V", 6 SDA (io) "Serial data. Open-drain output; requires a pullup resistor."

## TPS22953DQCR
designator U?, comment Valor: TPS22953  (hidden comment: IC LOAD SWITCH 5.7V 5A 10-WSON)
Manufacturer: Texas Instruments; Manufacturer Part Number: TPS22953DQCR; Origem: NICELO-Ed01R2; ComponentLink1URL: http://www.ti.com/lit/gpn/tps22953?src-supplier=Mouser; ComponentLink1Description: http://www.ti.com/lit/gpn/tps22953?src-supplier=Mouser; ComponentLink2URL: http://www.ti.com/lit/ds/symlink/tps22953.pdf?src-supplier=Digi-Key; ComponentLink2Description: http://www.ti.com/lit/ds/symlink/tps22953.pdf?src-supplier=Digi-Key; Case/Package: 10-WSON
footprint IC 10-WSON
pins: 1 VIN1, 2 VIN2, 3 VBIAS, 4 EN, 5 GND, 6 CT, 7 PG, 8 SNS, 9 OUT1, 10 OUT2, 11 GND